# Altium integrated library Analog Devices Data Converters Analog-to-Digital Converters.IntLib: 2400 symbols (part 45 of 338)
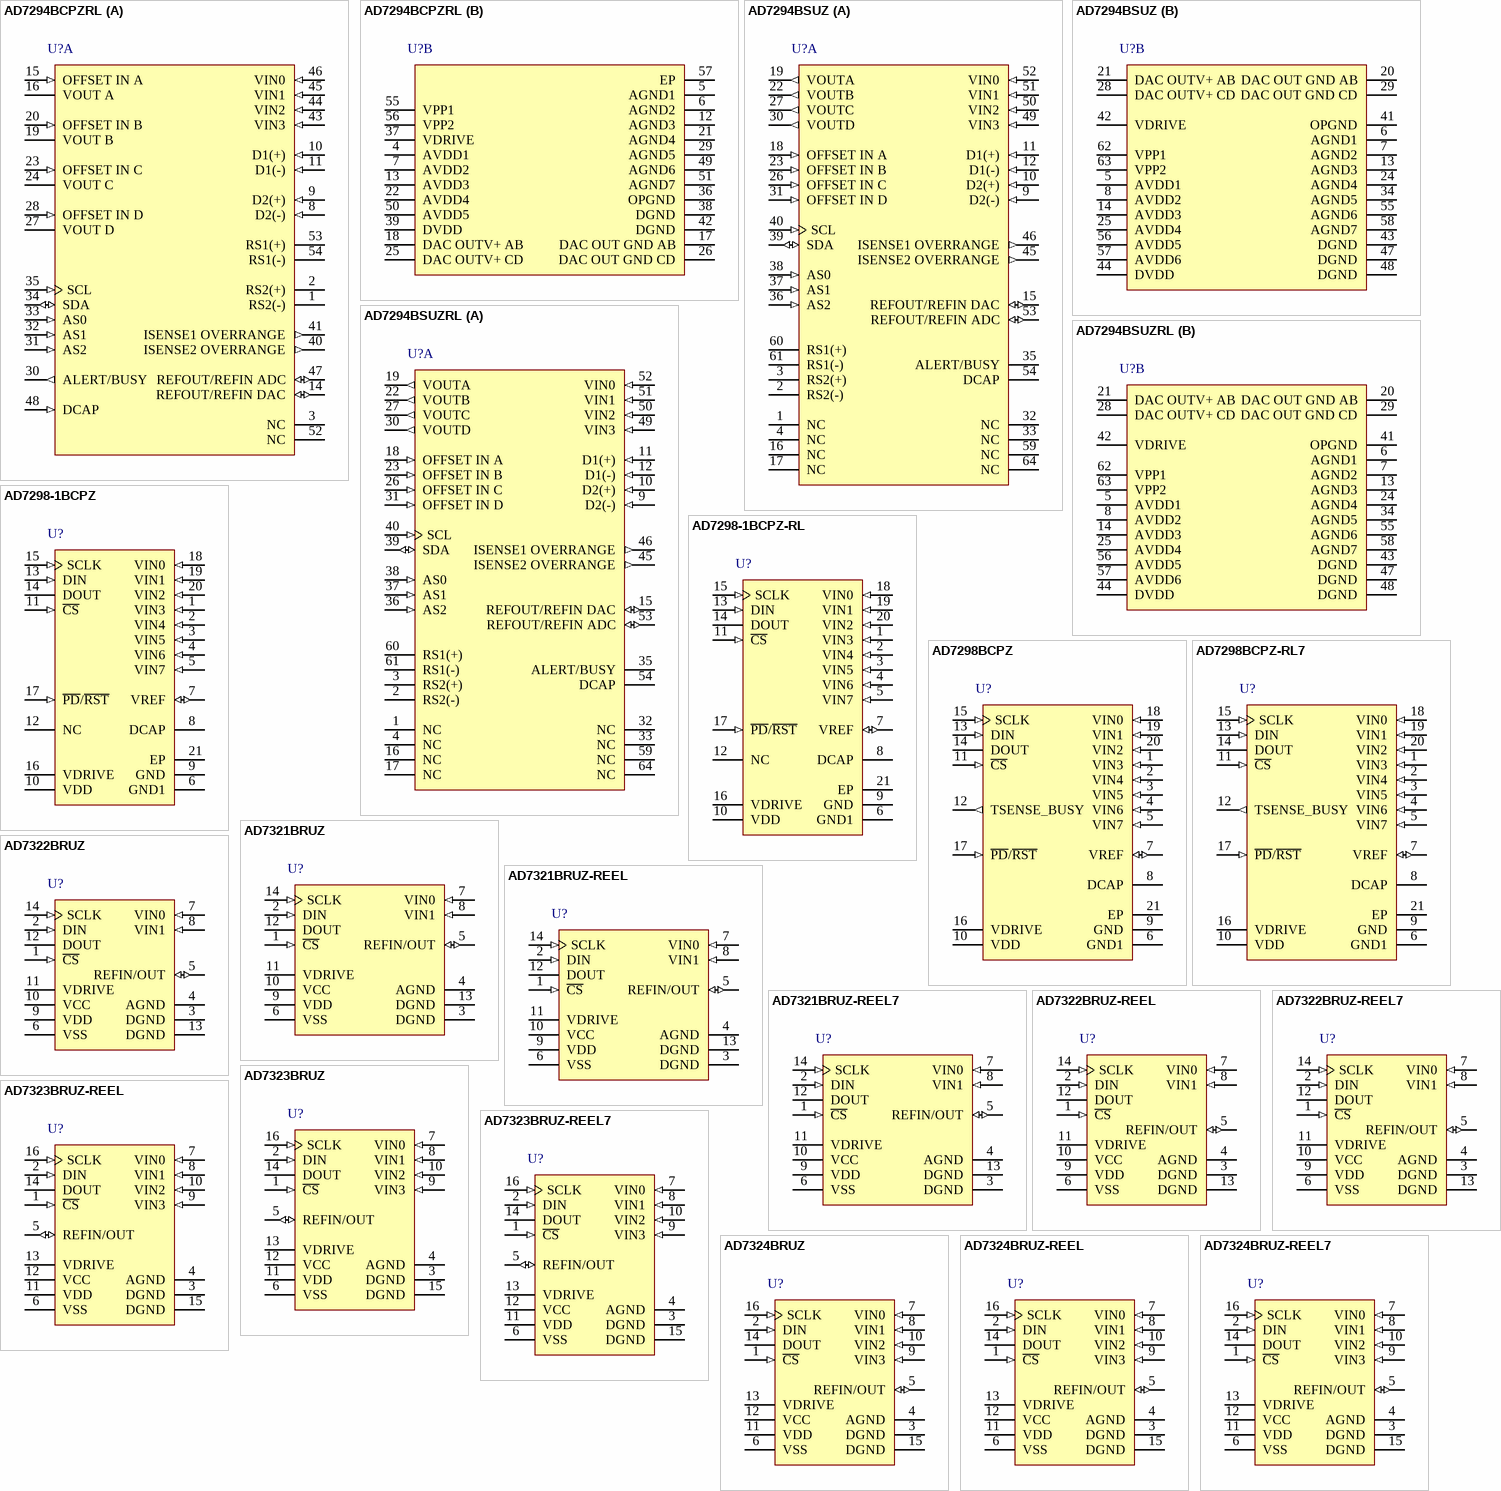
[diagram p181: symbols AD7294BCPZRL to AD7324BRUZ-REEL7]

## AD7294BSUZ
designator U?
12-Bit Monitor and Control System with Multichannel ADC, DAC, Temperature Sensor, and Current Sense, 200KSPS, -40 to +105 degC, SU-64-1, Pb-Free, Tray; Part Number: AD7294; Manufacturer: Analog Devices; Resolution (Bits): 12; Channels: 9; Throughput Rate (SPS): 200K; Interface: I2C/Ser 2-Wire, Ser; DatasheetVersion: Rev.H; PackageVersion: 032206-A; PackageReference: SU-64-1; PackageDescription: 64-Lead Thin Plastic Quad Flat Package [TQFP]; RoHS: Y; Packing: Tray; Mounting Technology: Surface Mount; Code_JEDEC: MS-026-ABD; ComponentLink1Description: Manufacturer URL; ComponentLink1URL: http://www.analog.com/en/index.html; ComponentLink2Description: Datasheet; ComponentLink2URL: http://www.analog.com/static/imported-files/data_sheets/AD7294.pdf; ComponentLink3Description: Package Specification; ComponentLink3URL: http://www.analog.com/static/imported-files/packages/32043934SU_64_1.pdf; ComponentLink4Description: Product URL; ComponentLink4URL: http://www.analog.com/en/analog-to-digital-converters/ad-converters/ad7294/products/product.html
footprint SU-64-1_N (Thin QFP, 64-Leads, Body 7x7mm, Pitch 0.4mm, IPC Medium Density)
footprint SU-64-1_L (Thin QFP, 64-Leads, Body 7x7mm, Pitch 0.4mm, IPC High Density)
footprint SU-64-1_M (Thin QFP, 64-Leads, Body 7x7mm, Pitch 0.4mm, IPC Low Density)
part A pins: 1 NC "No Connection. Do not connect these pins", 2 RS2(-) "Connection for External Shunt Resistor", 3 RS2(+) "Connection for External Shunt Resistor", 4 NC "No Connection. Do not connect these pins", 9 D2(-) (in) "Temperature Sensor Analog Input. These pins are connected to the external temperature sensing transistor. See Figure 46 and Figure 47", 10 D2(+) (in) "Temperature Sensor Analog Input. These pins are connected to the external temperature sensing transistor. See Figure 46 and Figure 47", 11 D1(+) (in) "Temperature Sensor Analog Input. These pins are connected to the external temperature sensing transistor. See Figure 46 and Figure 47", 12 D1(-) (in) "Temperature Sensor Analog Input. These pins are connected to the external temperature sensing transistor. See Figure 46 and Figure 47", 15 REFOUT/REFIN DAC (io) "DAC Reference Output/Input Pin. The REFOUT/REFIN DAC pin is common to all four DAC channels. On power-up, the default configuration of this pin is external reference (REFIN). Enable the internal reference by writing to the (See Datasheet)", 16 NC "No Connection. Do not connect these pins", 17 NC "No Connection. Do not connect these pins", 18 OFFSET IN A (in) "DAC Analog Offset Input Pins. These pins set the desired output range for each DAC channel. The DACs have an output voltage span of 5 V, which can be shifted from 0 V to 5 V to a maximum output voltage of 10 V to 15 V by (See Datasheet)", 19 VOUTA (out) "Buffered Analog DAC Outputs for Channel A to Channel D. Each DAC analog output is driven from an output amplifier that can be offset using the OFFSET IN x pin. The DAC has a maximum output voltage span of 5 V that can be (See Datasheet)", 22 VOUTB (out) "Buffered Analog DAC Outputs for Channel A to Channel D. Each DAC analog output is driven from an output amplifier that can be offset using the OFFSET IN x pin. The DAC has a maximum output voltage span of 5 V that can be (See Datasheet)", 23 OFFSET IN B (in) "DAC Analog Offset Input Pins. These pins set the desired output range for each DAC channel. The DACs have an output voltage span of 5 V, which can be shifted from 0 V to 5 V to a maximum output voltage of 10 V to 15 V by (See Datasheet)", 26 OFFSET IN C (in) "DAC Analog Offset Input Pins. These pins set the desired output range for each DAC channel. The DACs have an output voltage span of 5 V, which can be shifted from 0 V to 5 V to a maximum output voltage of 10 V to 15 V by (See Datasheet)", 27 VOUTC (out) "Buffered Analog DAC Outputs for Channel A to Channel D. Each DAC analog output is driven from an output amplifier that can be offset using the OFFSET IN x pin. The DAC has a maximum output voltage span of 5 V that can be (See Datasheet)", 30 VOUTD (out) "Buffered Analog DAC Outputs for Channel A to Channel D. Each DAC analog output is driven from an output amplifier that can be offset using the OFFSET IN x pin. The DAC has a maximum output voltage span of 5 V that can be (See Datasheet)", 31 OFFSET IN D (in) "DAC Analog Offset Input Pins. These pins set the desired output range for each DAC channel. The DACs have an output voltage span of 5 V, which can be shifted from 0 V to 5 V to a maximum output voltage of 10 V to 15 V by (See Datasheet)", 32 NC "No Connection. Do not connect these pins", 33 NC "No Connection. Do not connect these pins", 35 ALERT/BUSY (oc) "Digital Output. Selectable as an alert or busy output function in the configuration register. This is an open-drain output. An external pull-up resistor is required.When configured as an alert, this pin acts as an (See Datasheet)", 36 AS2 (in) "Digital Logic Input. Together, the logic state of these inputs selects a unique I2C address for the AD7294. See Table 34 for details.", 37 AS1 (in) "Digital Logic Input. Together, the logic state of these inputs selects a unique I2C address for the AD7294. See Table 34 for details.", 38 AS0 (in) "Digital Logic Input. Together, the logic state of these inputs selects a unique I2C address for the AD7294. See Table 34 for details.", 39 SDA (io) "Digital Input/Output. Serial bus bidirectional data; external pull-up resistor required.", 40 SCL (in) "Serial I2C Bus Clock. The data transfer rate in I2C mode is compatible with both 100 kHz and 400 kHz operating modes. Open-drain input; external pull-up resistor required.", 45 ISENSE2 OVERRANGE (out) "Fault Comparator Outputs. These pins connect to the high-side current sense amplifiers", 46 ISENSE1 OVERRANGE (out) "Fault Comparator Outputs. These pins connect to the high-side current sense amplifiers", 49 VIN3 (in) "Uncommitted ADC Analog Inputs. These pins are programmable as four single-ended channels or two true differential analog input channel pairs. See Table 1 and Table 13 for more details", 50 VIN2 (in) "Uncommitted ADC Analog Inputs. These pins are programmable as four single-ended channels or two true differential analog input channel pairs. See Table 1 and Table 13 for more details", 51 VIN1 (in) "Uncommitted ADC Analog Inputs. These pins are programmable as four single-ended channels or two true differential analog input channel pairs. See Table 1 and Table 13 for more details", 52 VIN0 (in) "Uncommitted ADC Analog Inputs. These pins are programmable as four single-ended channels or two true differential analog input channel pairs. See Table 1 and Table 13 for more details", 53 REFOUT/REFIN ADC (io) "ADC Reference Input/Output Pin. The REFOUT/REFIN ADC pin provides the reference source for the ADC. Upon power-up, the default configuration of this pin is external reference (REFIN). Enable the internal reference by writing (See Datasheet)", 54 DCAP "External Decoupling Capacitor Input for Internal Temperature Sensor. Decouple this pin to AGND using a 0.1 uF capacitor. In normal operation, the voltage is typically 3.7 V", 59 NC "No Connection. Do not connect these pins", 60 RS1(+) "Connection for External Shunt Resistor", 61 RS1(-) "Connection for External Shunt Resistor", 64 NC "No Connection. Do not connect these pins"
part B pins: 5 AVDD1 (power) "Analog Supply Pins. The operating range is 4.5 V to 5.5 V. These pins provide the supply voltage for all the analog circuitry on the AD7294. Connect the AVDD and DVDD pins together to ensure that all supply pins are at the (See Datasheet)", 6 AGND1 (power) "Analog Ground. Ground reference point for all analog circuitry on the AD7294. Refer all analog input signals and any external reference signal to this AGND voltage. Connect all seven of these AGND pins to the AGND plane of (See Datasheet)", 7 AGND2 (power) "Analog Ground. Ground reference point for all analog circuitry on the AD7294. Refer all analog input signals and any external reference signal to this AGND voltage. Connect all seven of these AGND pins to the AGND plane of (See Datasheet)", 8 AVDD2 (power) "Analog Supply Pins. The operating range is 4.5 V to 5.5 V. These pins provide the supply voltage for all the analog circuitry on the AD7294. Connect the AVDD and DVDD pins together to ensure that all supply pins are at the (See Datasheet)", 13 AGND3 (power) "Analog Ground. Ground reference point for all analog circuitry on the AD7294. Refer all analog input signals and any external reference signal to this AGND voltage. Connect all seven of these AGND pins to the AGND plane of (See Datasheet)", 14 AVDD3 (power) "Analog Supply Pins. The operating range is 4.5 V to 5.5 V. These pins provide the supply voltage for all the analog circuitry on the AD7294. Connect the AVDD and DVDD pins together to ensure that all supply pins are at the (See Datasheet)", 20 DAC OUT GND AB (power) "Analog Ground. Analog ground pins for the DAC output amplifiers on VOUTA and VOUTB, and VOUTC and VOUTD, respectively", 21 DAC OUTV+ AB (power) "Analog Supply. Analog supply pins for the DAC output amplifiers on VOUTA and VOUTB, and VOUTC and VOUTD, respectively. The operating range is 4.5 V to 16.5 V", 24 AGND4 (power) "Analog Ground. Ground reference point for all analog circuitry on the AD7294. Refer all analog input signals and any external reference signal to this AGND voltage. Connect all seven of these AGND pins to the AGND plane of (See Datasheet)", 25 AVDD4 (power) "Analog Supply Pins. The operating range is 4.5 V to 5.5 V. These pins provide the supply voltage for all the analog circuitry on the AD7294. Connect the AVDD and DVDD pins together to ensure that all supply pins are at the (See Datasheet)", 28 DAC OUTV+ CD (power) "Analog Supply. Analog supply pins for the DAC output amplifiers on VOUTA and VOUTB, and VOUTC and VOUTD, respectively. The operating range is 4.5 V to 16.5 V", 29 DAC OUT GND CD (power) "Analog Ground. Analog ground pins for the DAC output amplifiers on VOUTA and VOUTB, and VOUTC and VOUTD, respectively", 34 AGND5 (power) "Analog Ground. Ground reference point for all analog circuitry on the AD7294. Refer all analog input signals and any external reference signal to this AGND voltage. Connect all seven of these AGND pins to the AGND plane of (See Datasheet)", 41 OPGND (power) "Dedicated Ground Pin for I2C Interface", 42 VDRIVE (power) "Logic Power Supply. The voltage supplied at this pin determines at what voltage the interface operates. Decouple this pin to DGND. The voltage range on this pin is 2.7 V to 5.5 V and may be different to the voltage level at (See Datasheet)", 43 DGND (power) "Digital Ground. This pin is the ground for all digital circuitry", 44 DVDD (power) "Logic Power Supply. The operating range is 4.5 V to 5.5 V. These pins provide the supply voltage for all the digital circuitry on the AD7294. Connect the AVDD and DVDD pins together to ensure that all supply pins are at the (See Datasheet)", 47 DGND (power) "Digital Ground. This pin is the ground for all digital circuitry", 48 DGND (power) "Digital Ground. This pin is the ground for all digital circuitry", 55 AGND6 (power) "Analog Ground. Ground reference point for all analog circuitry on the AD7294. Refer all analog input signals and any external reference signal to this AGND voltage. Connect all seven of these AGND pins to the AGND plane of (See Datasheet)", 56 AVDD5 (power) "Analog Supply Pins. The operating range is 4.5 V to 5.5 V. These pins provide the supply voltage for all the analog circuitry on the AD7294. Connect the AVDD and DVDD pins together to ensure that all supply pins are at the (See Datasheet)", 57 AVDD6 (power) "Analog Supply Pins. The operating range is 4.5 V to 5.5 V. These pins provide the supply voltage for all the analog circuitry on the AD7294. Connect the AVDD and DVDD pins together to ensure that all supply pins are at the (See Datasheet)", 58 AGND7 (power) "Analog Ground. Ground reference point for all analog circuitry on the AD7294. Refer all analog input signals and any external reference signal to this AGND voltage. Connect all seven of these AGND pins to the AGND plane of (See Datasheet)", 62 VPP1 (power) "Current Sensor Supply Pins. Power supply pins for the high-side current sense amplifiers. Operating range is from AVDD to 59.4 V. Decouple this supply to AGND. See the Current Sense Filtering section", 63 VPP2 (power) "Current Sensor Supply Pins. Power supply pins for the high-side current sense amplifiers. Operating range is from AVDD to 59.4 V. Decouple this supply to AGND. See the Current Sense Filtering section"

## AD7294BSUZRL
designator U?
12-Bit Monitor and Control System with Multichannel ADC, DAC, Temperature Sensor, and Current Sense, 200KSPS, -40 to +105 degC, SU-64-1, Pb-Free, Reel; Part Number: AD7294; Manufacturer: Analog Devices; Resolution (Bits): 12; Channels: 9; Throughput Rate (SPS): 200K; Interface: I2C/Ser 2-Wire, Ser; DatasheetVersion: Rev.H; PackageVersion: 032206-A; PackageReference: SU-64-1; PackageDescription: 64-Lead Thin Plastic Quad Flat Package [TQFP]; RoHS: Y; Packing: Reel; Mounting Technology: Surface Mount; Code_JEDEC: MS-026-ABD; ComponentLink1Description: Manufacturer URL; ComponentLink1URL: http://www.analog.com/en/index.html; ComponentLink2Description: Datasheet; ComponentLink2URL: http://www.analog.com/static/imported-files/data_sheets/AD7294.pdf; ComponentLink3Description: Package Specification; ComponentLink3URL: http://www.analog.com/static/imported-files/packages/32043934SU_64_1.pdf; ComponentLink4Description: Product URL; ComponentLink4URL: http://www.analog.com/en/analog-to-digital-converters/ad-converters/ad7294/products/product.html
footprint SU-64-1_N (Thin QFP, 64-Leads, Body 7x7mm, Pitch 0.4mm, IPC Medium Density)
footprint SU-64-1_L (Thin QFP, 64-Leads, Body 7x7mm, Pitch 0.4mm, IPC High Density)
footprint SU-64-1_M (Thin QFP, 64-Leads, Body 7x7mm, Pitch 0.4mm, IPC Low Density)
part A pins: 1 NC "No Connection. Do not connect these pins", 2 RS2(-) "Connection for External Shunt Resistor", 3 RS2(+) "Connection for External Shunt Resistor", 4 NC "No Connection. Do not connect these pins", 9 D2(-) (in) "Temperature Sensor Analog Input. These pins are connected to the external temperature sensing transistor. See Figure 46 and Figure 47", 10 D2(+) (in) "Temperature Sensor Analog Input. These pins are connected to the external temperature sensing transistor. See Figure 46 and Figure 47", 11 D1(+) (in) "Temperature Sensor Analog Input. These pins are connected to the external temperature sensing transistor. See Figure 46 and Figure 47", 12 D1(-) (in) "Temperature Sensor Analog Input. These pins are connected to the external temperature sensing transistor. See Figure 46 and Figure 47", 15 REFOUT/REFIN DAC (io) "DAC Reference Output/Input Pin. The REFOUT/REFIN DAC pin is common to all four DAC channels. On power-up, the default configuration of this pin is external reference (REFIN). Enable the internal reference by writing to the (See Datasheet)", 16 NC "No Connection. Do not connect these pins", 17 NC "No Connection. Do not connect these pins", 18 OFFSET IN A (in) "DAC Analog Offset Input Pins. These pins set the desired output range for each DAC channel. The DACs have an output voltage span of 5 V, which can be shifted from 0 V to 5 V to a maximum output voltage of 10 V to 15 V by (See Datasheet)", 19 VOUTA (out) "Buffered Analog DAC Outputs for Channel A to Channel D. Each DAC analog output is driven from an output amplifier that can be offset using the OFFSET IN x pin. The DAC has a maximum output voltage span of 5 V that can be (See Datasheet)", 22 VOUTB (out) "Buffered Analog DAC Outputs for Channel A to Channel D. Each DAC analog output is driven from an output amplifier that can be offset using the OFFSET IN x pin. The DAC has a maximum output voltage span of 5 V that can be (See Datasheet)", 23 OFFSET IN B (in) "DAC Analog Offset Input Pins. These pins set the desired output range for each DAC channel. The DACs have an output voltage span of 5 V, which can be shifted from 0 V to 5 V to a maximum output voltage of 10 V to 15 V by (See Datasheet)", 26 OFFSET IN C (in) "DAC Analog Offset Input Pins. These pins set the desired output range for each DAC channel. The DACs have an output voltage span of 5 V, which can be shifted from 0 V to 5 V to a maximum output voltage of 10 V to 15 V by (See Datasheet)", 27 VOUTC (out) "Buffered Analog DAC Outputs for Channel A to Channel D. Each DAC analog output is driven from an output amplifier that can be offset using the OFFSET IN x pin. The DAC has a maximum output voltage span of 5 V that can be (See Datasheet)", 30 VOUTD (out) "Buffered Analog DAC Outputs for Channel A to Channel D. Each DAC analog output is driven from an output amplifier that can be offset using the OFFSET IN x pin. The DAC has a maximum output voltage span of 5 V that can be (See Datasheet)", 31 OFFSET IN D (in) "DAC Analog Offset Input Pins. These pins set the desired output range for each DAC channel. The DACs have an output voltage span of 5 V, which can be shifted from 0 V to 5 V to a maximum output voltage of 10 V to 15 V by (See Datasheet)", 32 NC "No Connection. Do not connect these pins", 33 NC "No Connection. Do not connect these pins", 35 ALERT/BUSY (oc) "Digital Output. Selectable as an alert or busy output function in the configuration register. This is an open-drain output. An external pull-up resistor is required.When configured as an alert, this pin acts as an (See Datasheet)", 36 AS2 (in) "Digital Logic Input. Together, the logic state of these inputs selects a unique I2C address for the AD7294. See Table 34 for details.", 37 AS1 (in) "Digital Logic Input. Together, the logic state of these inputs selects a unique I2C address for the AD7294. See Table 34 for details.", 38 AS0 (in) "Digital Logic Input. Together, the logic state of these inputs selects a unique I2C address for the AD7294. See Table 34 for details.", 39 SDA (io) "Digital Input/Output. Serial bus bidirectional data; external pull-up resistor required.", 40 SCL (in) "Serial I2C Bus Clock. The data transfer rate in I2C mode is compatible with both 100 kHz and 400 kHz operating modes. Open-drain input; external pull-up resistor required.", 45 ISENSE2 OVERRANGE (out) "Fault Comparator Outputs. These pins connect to the high-side current sense amplifiers", 46 ISENSE1 OVERRANGE (out) "Fault Comparator Outputs. These pins connect to the high-side current sense amplifiers", 49 VIN3 (in) "Uncommitted ADC Analog Inputs. These pins are programmable as four single-ended channels or two true differential analog input channel pairs. See Table 1 and Table 13 for more details", 50 VIN2 (in) "Uncommitted ADC Analog Inputs. These pins are programmable as four single-ended channels or two true differential analog input channel pairs. See Table 1 and Table 13 for more details", 51 VIN1 (in) "Uncommitted ADC Analog Inputs. These pins are programmable as four single-ended channels or two true differential analog input channel pairs. See Table 1 and Table 13 for more details", 52 VIN0 (in) "Uncommitted ADC Analog Inputs. These pins are programmable as four single-ended channels or two true differential analog input channel pairs. See Table 1 and Table 13 for more details", 53 REFOUT/REFIN ADC (io) "ADC Reference Input/Output Pin. The REFOUT/REFIN ADC pin provides the reference source for the ADC. Upon power-up, the default configuration of this pin is external reference (REFIN). Enable the internal reference by writing (See Datasheet)", 54 DCAP "External Decoupling Capacitor Input for Internal Temperature Sensor. Decouple this pin to AGND using a 0.1 uF capacitor. In normal operation, the voltage is typically 3.7 V", 59 NC "No Connection. Do not connect these pins", 60 RS1(+) "Connection for External Shunt Resistor", 61 RS1(-) "Connection for External Shunt Resistor", 64 NC "No Connection. Do not connect these pins"
part B pins: 5 AVDD1 (power) "Analog Supply Pins. The operating range is 4.5 V to 5.5 V. These pins provide the supply voltage for all the analog circuitry on the AD7294. Connect the AVDD and DVDD pins together to ensure that all supply pins are at the (See Datasheet)", 6 AGND1 (power) "Analog Ground. Ground reference point for all analog circuitry on the AD7294. Refer all analog input signals and any external reference signal to this AGND voltage. Connect all seven of these AGND pins to the AGND plane of (See Datasheet)", 7 AGND2 (power) "Analog Ground. Ground reference point for all analog circuitry on the AD7294. Refer all analog input signals and any external reference signal to this AGND voltage. Connect all seven of these AGND pins to the AGND plane of (See Datasheet)", 8 AVDD2 (power) "Analog Supply Pins. The operating range is 4.5 V to 5.5 V. These pins provide the supply voltage for all the analog circuitry on the AD7294. Connect the AVDD and DVDD pins together to ensure that all supply pins are at the (See Datasheet)", 13 AGND3 (power) "Analog Ground. Ground reference point for all analog circuitry on the AD7294. Refer all analog input signals and any external reference signal to this AGND voltage. Connect all seven of these AGND pins to the AGND plane of (See Datasheet)", 14 AVDD3 (power) "Analog Supply Pins. The operating range is 4.5 V to 5.5 V. These pins provide the supply voltage for all the analog circuitry on the AD7294. Connect the AVDD and DVDD pins together to ensure that all supply pins are at the (See Datasheet)", 20 DAC OUT GND AB (power) "Analog Ground. Analog ground pins for the DAC output amplifiers on VOUTA and VOUTB, and VOUTC and VOUTD, respectively", 21 DAC OUTV+ AB (power) "Analog Supply. Analog supply pins for the DAC output amplifiers on VOUTA and VOUTB, and VOUTC and VOUTD, respectively. The operating range is 4.5 V to 16.5 V", 24 AGND4 (power) "Analog Ground. Ground reference point for all analog circuitry on the AD7294. Refer all analog input signals and any external reference signal to this AGND voltage. Connect all seven of these AGND pins to the AGND plane of (See Datasheet)", 25 AVDD4 (power) "Analog Supply Pins. The operating range is 4.5 V to 5.5 V. These pins provide the supply voltage for all the analog circuitry on the AD7294. Connect the AVDD and DVDD pins together to ensure that all supply pins are at the (See Datasheet)", 28 DAC OUTV+ CD (power) "Analog Supply. Analog supply pins for the DAC output amplifiers on VOUTA and VOUTB, and VOUTC and VOUTD, respectively. The operating range is 4.5 V to 16.5 V", 29 DAC OUT GND CD (power) "Analog Ground. Analog ground pins for the DAC output amplifiers on VOUTA and VOUTB, and VOUTC and VOUTD, respectively", 34 AGND5 (power) "Analog Ground. Ground reference point for all analog circuitry on the AD7294. Refer all analog input signals and any external reference signal to this AGND voltage. Connect all seven of these AGND pins to the AGND plane of (See Datasheet)", 41 OPGND (power) "Dedicated Ground Pin for I2C Interface", 42 VDRIVE (power) "Logic Power Supply. The voltage supplied at this pin determines at what voltage the interface operates. Decouple this pin to DGND. The voltage range on this pin is 2.7 V to 5.5 V and may be different to the voltage level at (See Datasheet)", 43 DGND (power) "Digital Ground. This pin is the ground for all digital circuitry", 44 DVDD (power) "Logic Power Supply. The operating range is 4.5 V to 5.5 V. These pins provide the supply voltage for all the digital circuitry on the AD7294. Connect the AVDD and DVDD pins together to ensure that all supply pins are at the (See Datasheet)", 47 DGND (power) "Digital Ground. This pin is the ground for all digital circuitry", 48 DGND (power) "Digital Ground. This pin is the ground for all digital circuitry", 55 AGND6 (power) "Analog Ground. Ground reference point for all analog circuitry on the AD7294. Refer all analog input signals and any external reference signal to this AGND voltage. Connect all seven of these AGND pins to the AGND plane of (See Datasheet)", 56 AVDD5 (power) "Analog Supply Pins. The operating range is 4.5 V to 5.5 V. These pins provide the supply voltage for all the analog circuitry on the AD7294. Connect the AVDD and DVDD pins together to ensure that all supply pins are at the (See Datasheet)", 57 AVDD6 (power) "Analog Supply Pins. The operating range is 4.5 V to 5.5 V. These pins provide the supply voltage for all the analog circuitry on the AD7294. Connect the AVDD and DVDD pins together to ensure that all supply pins are at the (See Datasheet)", 58 AGND7 (power) "Analog Ground. Ground reference point for all analog circuitry on the AD7294. Refer all analog input signals and any external reference signal to this AGND voltage. Connect all seven of these AGND pins to the AGND plane of (See Datasheet)", 62 VPP1 (power) "Current Sensor Supply Pins. Power supply pins for the high-side current sense amplifiers. Operating range is from AVDD to 59.4 V. Decouple this supply to AGND. See the Current Sense Filtering section", 63 VPP2 (power) "Current Sensor Supply Pins. Power supply pins for the high-side current sense amplifiers. Operating range is from AVDD to 59.4 V. Decouple this supply to AGND. See the Current Sense Filtering section"

## AD7298-1BCPZ
designator U?
8 Channel 10-Bit SAR Analog-to-Digital Converter with SPI Interface, 1MSPS, -40 to +125 degC, CP-20-8, Pb-Free, Tray; Part Number: AD7298-1; Manufacturer: Analog Devices; Resolution (Bits): 10; Channels: 8; Throughput Rate (SPS): 1M; DatasheetVersion: Rev.A; PackageVersion: 020509-B; PackageReference: CP-20-8; PackageDescription: 20-Lead Lead Frame Chip Scale Package [LFCSP_WQ] 4 x 4 mm Body, Very Very Thin Quad; Interface: SPI; RoHS: Y; Packing: Tray; Mounting Technology: Surface Mount; Code_JEDEC: MO-220-WGGD; ComponentLink1Description: Manufacturer URL; ComponentLink1URL: http://www.analog.com/en/index.html; ComponentLink2Description: Datasheet; ComponentLink2URL: http://www.analog.com/static/imported-files/data_sheets/AD7298-1.pdf; ComponentLink3Description: Package Specification; ComponentLink3URL: http://www.analog.com/static/imported-files/packages/PKG_PDF/LFCSP(CP)/CP-20/CP_20_8.pdf; ComponentLink4Description: Product URL; ComponentLink4URL: http://www.analog.com/en/analog-to-digital-converters/ad-converters/ad7298-1/products/product.html
footprint CP-20-8_N (QFN, 20-Leads, Body 4x4mm, Pitch 0.5mm, Thermal Pad 2.6x2.6mm, IPC Medium Density)
footprint CP-20-8_L (QFN, 20-Leads, Body 4x4mm, Pitch 0.5mm, Thermal Pad 2.6x2.6mm, IPC High Density)
footprint CP-20-8_M (QFN, 20-Leads, Body 4x4mm, Pitch 0.5mm, Thermal Pad 2.6x2.6mm, IPC Low Density)
pins: 1 VIN3 (in) "Analog Inputs. The AD7298-1 has eight single-ended analog inputs that are multiplexed into the on-chip track-and-hold. Each input channel can accept analog inputs from 0 V to 2.5 V. Any unused input channels should be (See Datasheet)", 2 VIN4 (in) "Analog Inputs. The AD7298-1 has eight single-ended analog inputs that are multiplexed into the on-chip track-and-hold. Each input channel can accept analog inputs from 0 V to 2.5 V. Any unused input channels should be (See Datasheet)", 3 VIN5 (in) "Analog Inputs. The AD7298-1 has eight single-ended analog inputs that are multiplexed into the on-chip track-and-hold. Each input channel can accept analog inputs from 0 V to 2.5 V. Any unused input channels should be (See Datasheet)", 4 VIN6 (in) "Analog Inputs. The AD7298-1 has eight single-ended analog inputs that are multiplexed into the on-chip track-and-hold. Each input channel can accept analog inputs from 0 V to 2.5 V. Any unused input channels should be (See Datasheet)", 5 VIN7 (in) "Analog Inputs. The AD7298-1 has eight single-ended analog inputs that are multiplexed into the on-chip track-and-hold. Each input channel can accept analog inputs from 0 V to 2.5 V. Any unused input channels should be (See Datasheet)", 6 GND1 (power) "Ground. Ground reference point for the internal reference circuitry on the AD7298-1. The external reference signals and all analog input signals should be referred to the GND1 voltage. The GND1 pin should be connected to the (See Datasheet)", 7 VREF (io) "Internal Reference/External Reference Supply. The nominal internal reference voltage of 2.5 V appears at this pin.Provided the output is buffered, the on-chip reference can be taken from this pin and applied externally to (See Datasheet)", 8 DCAP "Decoupling Capacitor Pins. Decoupling capacitors (1 uF recommended) are connected to this pin to decouple the internal LDO.", 9 GND (power) "Ground. Ground reference point for all analog and digital circuitry on the AD7298-1. The GND pin should be connected to the ground plane of the system. All ground pins should ideally be at the same potential and must not be (See Datasheet)", 10 VDD (power) "Supply Voltage, 2.8 V to 3.6 V. This supply should be decoupled to GND with 10 uF and 100 nF decoupling capacitors.", 11 ~{CS} (in) "Chip Select, Active Low Logic Input. This pin is edge triggered on the falling edge of this input, the track-and-hold goes into hold mode, and a conversion is initiated. This input also frames the serial data transfer. When (See Datasheet)", 12 NC "No Connect.", 13 DIN (in) "Data In, Logic Input. Data to be written to the AD7298-1 control register is provided on this input and is clocked into the register on the falling edge of SCLK.", 14 DOUT (hiz) "Serial Data Output. The conversion result from the AD7298-1 is provided on this output as a serial data stream.The bits are clocked out on the falling edge of the SCLK input. The data stream from the AD7298-1 consists of (See Datasheet)", 15 SCLK (in) "Serial Clock, Logic Input. A serial clock input provides the SCLK for accessing the data from the AD7298-1.", 16 VDRIVE (power) "Logic Power Supply Input. The voltage supplied at this pin determines the voltage at which the interface operates. This pin should be decoupled to ground. The voltage range on this pin is 1.65 V to 3.6 V and may be less than (See Datasheet)", 17 ~{PD}/~{RST} (in) "Power-Down Pin. This pin places the part into full power-down mode and enables power conservation when operation is not required. This pin can be used to reset the device by toggling the pin low for a minimum of 1 ns and a (See Datasheet)", 18 VIN0 (in) "Analog Inputs. The AD7298-1 has eight single-ended analog inputs that are multiplexed into the on-chip track-and-hold. Each input channel can accept analog inputs from 0 V to 2.5 V. Any unused input channels should be (See Datasheet)", 19 VIN1 (in) "Analog Inputs. The AD7298-1 has eight single-ended analog inputs that are multiplexed into the on-chip track-and-hold. Each input channel can accept analog inputs from 0 V to 2.5 V. Any unused input channels should be (See Datasheet)", 20 VIN2 (in) "Analog Inputs. The AD7298-1 has eight single-ended analog inputs that are multiplexed into the on-chip track-and-hold. Each input channel can accept analog inputs from 0 V to 2.5 V. Any unused input channels should be (See Datasheet)", 21 EP (power) "The exposed metal paddle on the bottom of the LFCSP package should be soldered to PCB ground for proper functionality and heat dissipation."

## AD7298-1BCPZ-RL
designator U?
8 Channel 10-Bit SAR Analog-to-Digital Converter with SPI Interface, 1MSPS, -40 to +125 degC, CP-20-8, Pb-Free, Reel; Part Number: AD7298-1; Manufacturer: Analog Devices; Resolution (Bits): 10; Channels: 8; Throughput Rate (SPS): 1M; DatasheetVersion: Rev.A; PackageVersion: 020509-B; PackageReference: CP-20-8; PackageDescription: 20-Lead Lead Frame Chip Scale Package [LFCSP_WQ] 4 x 4 mm Body, Very Very Thin Quad; Interface: SPI; RoHS: Y; Packing: Reel; Mounting Technology: Surface Mount; Code_JEDEC: MO-220-WGGD; ComponentLink1Description: Manufacturer URL; ComponentLink1URL: http://www.analog.com/en/index.html; ComponentLink2Description: Datasheet; ComponentLink2URL: http://www.analog.com/static/imported-files/data_sheets/AD7298-1.pdf; ComponentLink3Description: Package Specification; ComponentLink3URL: http://www.analog.com/static/imported-files/packages/PKG_PDF/LFCSP(CP)/CP-20/CP_20_8.pdf; ComponentLink4Description: Product URL; ComponentLink4URL: http://www.analog.com/en/analog-to-digital-converters/ad-converters/ad7298-1/products/product.html
footprint CP-20-8_N (QFN, 20-Leads, Body 4x4mm, Pitch 0.5mm, Thermal Pad 2.6x2.6mm, IPC Medium Density)
footprint CP-20-8_L (QFN, 20-Leads, Body 4x4mm, Pitch 0.5mm, Thermal Pad 2.6x2.6mm, IPC High Density)
footprint CP-20-8_M (QFN, 20-Leads, Body 4x4mm, Pitch 0.5mm, Thermal Pad 2.6x2.6mm, IPC Low Density)
pins: 1 VIN3 (in) "Analog Inputs. The AD7298-1 has eight single-ended analog inputs that are multiplexed into the on-chip track-and-hold. Each input channel can accept analog inputs from 0 V to 2.5 V. Any unused input channels should be (See Datasheet)", 2 VIN4 (in) "Analog Inputs. The AD7298-1 has eight single-ended analog inputs that are multiplexed into the on-chip track-and-hold. Each input channel can accept analog inputs from 0 V to 2.5 V. Any unused input channels should be (See Datasheet)", 3 VIN5 (in) "Analog Inputs. The AD7298-1 has eight single-ended analog inputs that are multiplexed into the on-chip track-and-hold. Each input channel can accept analog inputs from 0 V to 2.5 V. Any unused input channels should be (See Datasheet)", 4 VIN6 (in) "Analog Inputs. The AD7298-1 has eight single-ended analog inputs that are multiplexed into the on-chip track-and-hold. Each input channel can accept analog inputs from 0 V to 2.5 V. Any unused input channels should be (See Datasheet)", 5 VIN7 (in) "Analog Inputs. The AD7298-1 has eight single-ended analog inputs that are multiplexed into the on-chip track-and-hold. Each input channel can accept analog inputs from 0 V to 2.5 V. Any unused input channels should be (See Datasheet)", 6 GND1 (power) "Ground. Ground reference point for the internal reference circuitry on the AD7298-1. The external reference signals and all analog input signals should be referred to the GND1 voltage. The GND1 pin should be connected to the (See Datasheet)", 7 VREF (io) "Internal Reference/External Reference Supply. The nominal internal reference voltage of 2.5 V appears at this pin.Provided the output is buffered, the on-chip reference can be taken from this pin and applied externally to (See Datasheet)", 8 DCAP "Decoupling Capacitor Pins. Decoupling capacitors (1 uF recommended) are connected to this pin to decouple the internal LDO.", 9 GND (power) "Ground. Ground reference point for all analog and digital circuitry on the AD7298-1. The GND pin should be connected to the ground plane of the system. All ground pins should ideally be at the same potential and must not be (See Datasheet)", 10 VDD (power) "Supply Voltage, 2.8 V to 3.6 V. This supply should be decoupled to GND with 10 uF and 100 nF decoupling capacitors.", 11 ~{CS} (in) "Chip Select, Active Low Logic Input. This pin is edge triggered on the falling edge of this input, the track-and-hold goes into hold mode, and a conversion is initiated. This input also frames the serial data transfer. When (See Datasheet)", 12 NC "No Connect.", 13 DIN (in) "Data In, Logic Input. Data to be written to the AD7298-1 control register is provided on this input and is clocked into the register on the falling edge of SCLK.", 14 DOUT (hiz) "Serial Data Output. The conversion result from the AD7298-1 is provided on this output as a serial data stream.The bits are clocked out on the falling edge of the SCLK input. The data stream from the AD7298-1 consists of (See Datasheet)", 15 SCLK (in) "Serial Clock, Logic Input. A serial clock input provides the SCLK for accessing the data from the AD7298-1.", 16 VDRIVE (power) "Logic Power Supply Input. The voltage supplied at this pin determines the voltage at which the interface operates. This pin should be decoupled to ground. The voltage range on this pin is 1.65 V to 3.6 V and may be less than (See Datasheet)", 17 ~{PD}/~{RST} (in) "Power-Down Pin. This pin places the part into full power-down mode and enables power conservation when operation is not required. This pin can be used to reset the device by toggling the pin low for a minimum of 1 ns and a (See Datasheet)", 18 VIN0 (in) "Analog Inputs. The AD7298-1 has eight single-ended analog inputs that are multiplexed into the on-chip track-and-hold. Each input channel can accept analog inputs from 0 V to 2.5 V. Any unused input channels should be (See Datasheet)", 19 VIN1 (in) "Analog Inputs. The AD7298-1 has eight single-ended analog inputs that are multiplexed into the on-chip track-and-hold. Each input channel can accept analog inputs from 0 V to 2.5 V. Any unused input channels should be (See Datasheet)", 20 VIN2 (in) "Analog Inputs. The AD7298-1 has eight single-ended analog inputs that are multiplexed into the on-chip track-and-hold. Each input channel can accept analog inputs from 0 V to 2.5 V. Any unused input channels should be (See Datasheet)", 21 EP (power) "The exposed metal paddle on the bottom of the LFCSP package should be soldered to PCB ground for proper functionality and heat dissipation."

## AD7298BCPZ
designator U?
8 Channel 12-Bit SAR Analog-to-Digital Converter with SPI Interface and Temperature Sensor 1MSPS, -40 to +125 degC, CP-20-8, Pb-Free, Tray; Part Number: AD7298; Manufacturer: Analog Devices; Resolution (Bits): 12; Channels: 9; Throughput Rate (SPS): 1M; DatasheetVersion: Rev.B; PackageVersion: 020509-B; PackageReference: CP-20-8; PackageDescription: 20-Lead Lead Frame Chip Scale Package [LFCSP_WQ] 4 x 4 mm Body, Very Very Thin Quad; Interface: SPI; RoHS: Y; Packing: Tray; Mounting Technology: Surface Mount; Code_JEDEC: MO-220-WGGD; ComponentLink1Description: Manufacturer URL; ComponentLink1URL: http://www.analog.com/en/index.html; ComponentLink2Description: Datasheet; ComponentLink2URL: http://www.analog.com/static/imported-files/data_sheets/AD7298.pdf; ComponentLink3Description: Package Specification; ComponentLink3URL: http://www.analog.com/static/imported-files/packages/PKG_PDF/LFCSP(CP)/CP-20/CP_20_8.pdf; ComponentLink4Description: Product URL; ComponentLink4URL: http://www.analog.com/en/analog-to-digital-converters/ad-converters/ad7298/products/product.html
footprint CP-20-8_N (QFN, 20-Leads, Body 4x4mm, Pitch 0.5mm, Thermal Pad 2.6x2.6mm, IPC Medium Density)
footprint CP-20-8_L (QFN, 20-Leads, Body 4x4mm, Pitch 0.5mm, Thermal Pad 2.6x2.6mm, IPC High Density)
footprint CP-20-8_M (QFN, 20-Leads, Body 4x4mm, Pitch 0.5mm, Thermal Pad 2.6x2.6mm, IPC Low Density)
pins: 1 VIN3 (in) "Analog Inputs. The AD7298 has eight single-ended analog inputs that are multiplexed into the on-chip track-and-hold. Each input channel can accept analog inputs from 0 V to 2.5 V. Any unused input channels should be (See Datasheet)", 2 VIN4 (in) "Analog Inputs. The AD7298 has eight single-ended analog inputs that are multiplexed into the on-chip track-and-hold. Each input channel can accept analog inputs from 0 V to 2.5 V. Any unused input channels should be (See Datasheet)", 3 VIN5 (in) "Analog Inputs. The AD7298 has eight single-ended analog inputs that are multiplexed into the on-chip track-and-hold. Each input channel can accept analog inputs from 0 V to 2.5 V. Any unused input channels should be (See Datasheet)", 4 VIN6 (in) "Analog Inputs. The AD7298 has eight single-ended analog inputs that are multiplexed into the on-chip track-and-hold. Each input channel can accept analog inputs from 0 V to 2.5 V. Any unused input channels should be (See Datasheet)", 5 VIN7 (in) "Analog Inputs. The AD7298 has eight single-ended analog inputs that are multiplexed into the on-chip track-and-hold. Each input channel can accept analog inputs from 0 V to 2.5 V. Any unused input channels should be (See Datasheet)", 6 GND1 (power) "Ground. Ground reference point for the internal reference circuitry on the AD7298. The external reference signals and all analog input signals should be referred to this GND1 voltage. The GND1 pin should be connected to the (See Datasheet)", 7 VREF (io) "Internal Reference/External Reference Supply. The nominal internal reference voltage of 2.5 V appears at this pin. Provided the output is buffered, the on-chip reference can be taken from this pin and applied externally to (See Datasheet)", 8 DCAP "Decoupling Capacitor Pin. Decoupling capacitors (1 uF recommended) are connected to this pin to decouple the internal LDO.", 9 GND (power) "Ground. Ground reference point for all analog and digital circuitry on the AD7298. The GND pin should be connected to the ground plane of the system. All ground pins should ideally be at the same potential and must not be (See Datasheet)", 10 VDD (power) "Supply Voltage, 2.8 V to 3.6 V. This supply should be decoupled to GND with 10 uF and 100 nF decoupling capacitors.", 11 ~{CS} (in) "Chip Select, Active Low Logic Input. This pin is edge triggered on the falling edge of this input, the track-and-hold goes into hold mode, and a conversion is initiated. This input also frames the serial data transfer. When (See Datasheet)", 12 TSENSE_BUSY (out) "Busy Output. This pin transitions high when a temperature sensor conversion starts and remains high until the conversion completes.", 13 DIN (in) "Data In, Logic input. Data to be written to the AD7298 control register is provided on this input and is clocked into the register on the falling edge of SCLK.", 14 DOUT (hiz) "Serial Data Output. The conversion result from the AD7298 is provided on this output as a serial data stream. The bits are clocked out on the falling edge of the SCLK input. The data stream from the AD7298 consists of four (See Datasheet)", 15 SCLK (in) "Serial Clock, Logic Input. A serial clock input provides the SCLK for accessing the data from the AD7298.", 16 VDRIVE (power) "Logic Power Supply Input. The voltage supplied at this pin determines at the voltage at which the interface operates. This pin should be decoupled to GND. The voltage range on this pin is 1.65 V to 3.6 V and may be less than (See Datasheet)", 17 ~{PD}/~{RST} (in) "Power-Down Pin. This pin places the part into full power-down mode and enables power conservation when operation is not required. This pin can be used to reset the device by toggling the pin low for a minimum of 1 ns and a (See Datasheet)", 18 VIN0 (in) "Analog Inputs. The AD7298 has eight single-ended analog inputs that are multiplexed into the on-chip track-and-hold. Each input channel can accept analog inputs from 0 V to 2.5 V. Any unused input channels should be (See Datasheet)", 19 VIN1 (in) "Analog Inputs. The AD7298 has eight single-ended analog inputs that are multiplexed into the on-chip track-and-hold. Each input channel can accept analog inputs from 0 V to 2.5 V. Any unused input channels should be (See Datasheet)", 20 VIN2 (in) "Analog Inputs. The AD7298 has eight single-ended analog inputs that are multiplexed into the on-chip track-and-hold. Each input channel can accept analog inputs from 0 V to 2.5 V. Any unused input channels should be (See Datasheet)", 21 EP (power) "The exposed metal paddle on the bottom of the LFCSP package should be soldered to PCB ground for proper functionality and heat dissipation."

## AD7298BCPZ-RL7
designator U?
8 Channel 12-Bit SAR Analog-to-Digital Converter with SPI Interface and Temperature Sensor 1MSPS, -40 to +125 degC, CP-20-8, Pb-Free, Reel; Part Number: AD7298; Manufacturer: Analog Devices; Resolution (Bits): 12; Channels: 9; Throughput Rate (SPS): 1M; DatasheetVersion: Rev.B; PackageVersion: 020509-B; PackageReference: CP-20-8; PackageDescription: 20-Lead Lead Frame Chip Scale Package [LFCSP_WQ] 4 x 4 mm Body, Very Very Thin Quad; Interface: SPI; RoHS: Y; Packing: Reel; Mounting Technology: Surface Mount; Code_JEDEC: MO-220-WGGD; ComponentLink1Description: Manufacturer URL; ComponentLink1URL: http://www.analog.com/en/index.html; ComponentLink2Description: Datasheet; ComponentLink2URL: http://www.analog.com/static/imported-files/data_sheets/AD7298.pdf; ComponentLink3Description: Package Specification; ComponentLink3URL: http://www.analog.com/static/imported-files/packages/PKG_PDF/LFCSP(CP)/CP-20/CP_20_8.pdf; ComponentLink4Description: Product URL; ComponentLink4URL: http://www.analog.com/en/analog-to-digital-converters/ad-converters/ad7298/products/product.html
footprint CP-20-8_N (QFN, 20-Leads, Body 4x4mm, Pitch 0.5mm, Thermal Pad 2.6x2.6mm, IPC Medium Density)
footprint CP-20-8_L (QFN, 20-Leads, Body 4x4mm, Pitch 0.5mm, Thermal Pad 2.6x2.6mm, IPC High Density)
footprint CP-20-8_M (QFN, 20-Leads, Body 4x4mm, Pitch 0.5mm, Thermal Pad 2.6x2.6mm, IPC Low Density)
pins: 1 VIN3 (in) "Analog Inputs. The AD7298 has eight single-ended analog inputs that are multiplexed into the on-chip track-and-hold. Each input channel can accept analog inputs from 0 V to 2.5 V. Any unused input channels should be (See Datasheet)", 2 VIN4 (in) "Analog Inputs. The AD7298 has eight single-ended analog inputs that are multiplexed into the on-chip track-and-hold. Each input channel can accept analog inputs from 0 V to 2.5 V. Any unused input channels should be (See Datasheet)", 3 VIN5 (in) "Analog Inputs. The AD7298 has eight single-ended analog inputs that are multiplexed into the on-chip track-and-hold. Each input channel can accept analog inputs from 0 V to 2.5 V. Any unused input channels should be (See Datasheet)", 4 VIN6 (in) "Analog Inputs. The AD7298 has eight single-ended analog inputs that are multiplexed into the on-chip track-and-hold. Each input channel can accept analog inputs from 0 V to 2.5 V. Any unused input channels should be (See Datasheet)", 5 VIN7 (in) "Analog Inputs. The AD7298 has eight single-ended analog inputs that are multiplexed into the on-chip track-and-hold. Each input channel can accept analog inputs from 0 V to 2.5 V. Any unused input channels should be (See Datasheet)", 6 GND1 (power) "Ground. Ground reference point for the internal reference circuitry on the AD7298. The external reference signals and all analog input signals should be referred to this GND1 voltage. The GND1 pin should be connected to the (See Datasheet)", 7 VREF (io) "Internal Reference/External Reference Supply. The nominal internal reference voltage of 2.5 V appears at this pin. Provided the output is buffered, the on-chip reference can be taken from this pin and applied externally to (See Datasheet)", 8 DCAP "Decoupling Capacitor Pin. Decoupling capacitors (1 uF recommended) are connected to this pin to decouple the internal LDO.", 9 GND (power) "Ground. Ground reference point for all analog and digital circuitry on the AD7298. The GND pin should be connected to the ground plane of the system. All ground pins should ideally be at the same potential and must not be (See Datasheet)", 10 VDD (power) "Supply Voltage, 2.8 V to 3.6 V. This supply should be decoupled to GND with 10 uF and 100 nF decoupling capacitors.", 11 ~{CS} (in) "Chip Select, Active Low Logic Input. This pin is edge triggered on the falling edge of this input, the track-and-hold goes into hold mode, and a conversion is initiated. This input also frames the serial data transfer. When (See Datasheet)", 12 TSENSE_BUSY (out) "Busy Output. This pin transitions high when a temperature sensor conversion starts and remains high until the conversion completes.", 13 DIN (in) "Data In, Logic input. Data to be written to the AD7298 control register is provided on this input and is clocked into the register on the falling edge of SCLK.", 14 DOUT (hiz) "Serial Data Output. The conversion result from the AD7298 is provided on this output as a serial data stream. The bits are clocked out on the falling edge of the SCLK input. The data stream from the AD7298 consists of four (See Datasheet)", 15 SCLK (in) "Serial Clock, Logic Input. A serial clock input provides the SCLK for accessing the data from the AD7298.", 16 VDRIVE (power) "Logic Power Supply Input. The voltage supplied at this pin determines at the voltage at which the interface operates. This pin should be decoupled to GND. The voltage range on this pin is 1.65 V to 3.6 V and may be less than (See Datasheet)", 17 ~{PD}/~{RST} (in) "Power-Down Pin. This pin places the part into full power-down mode and enables power conservation when operation is not required. This pin can be used to reset the device by toggling the pin low for a minimum of 1 ns and a (See Datasheet)", 18 VIN0 (in) "Analog Inputs. The AD7298 has eight single-ended analog inputs that are multiplexed into the on-chip track-and-hold. Each input channel can accept analog inputs from 0 V to 2.5 V. Any unused input channels should be (See Datasheet)", 19 VIN1 (in) "Analog Inputs. The AD7298 has eight single-ended analog inputs that are multiplexed into the on-chip track-and-hold. Each input channel can accept analog inputs from 0 V to 2.5 V. Any unused input channels should be (See Datasheet)", 20 VIN2 (in) "Analog Inputs. The AD7298 has eight single-ended analog inputs that are multiplexed into the on-chip track-and-hold. Each input channel can accept analog inputs from 0 V to 2.5 V. Any unused input channels should be (See Datasheet)", 21 EP (power) "The exposed metal paddle on the bottom of the LFCSP package should be soldered to PCB ground for proper functionality and heat dissipation."